# Altium footprint library LoRa_E32.PcbLib: 1 footprints
Each footprint in its own frame and in the unit in brackets; x right, y up, seen from the top. Pads: shape width x height; smd on the part's side, far side on the other; paste and mask are expansions set on the pad; w line width, h text height; cw(c..) or ccw(c..) is an arc to the next point about the centre after c.
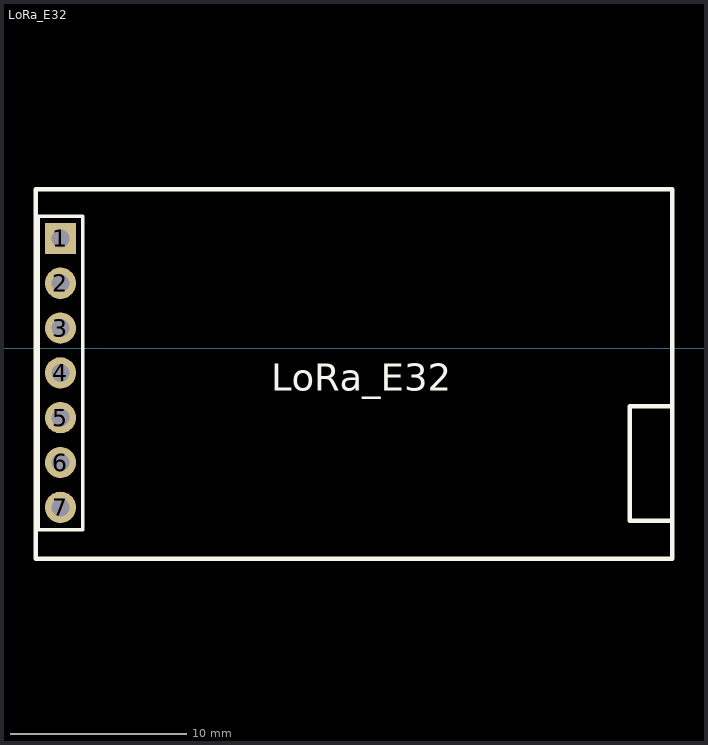
[diagram p0: the footprint, top view; thin cyan lines are the x and y axes]

## LoRa_E32 [mil]
pads (7):
  rect 70x70 hole 40: 1(135,245)
  round 70 hole 40: 2(135,145) 3(135,45) 4(135,-55) 5(135,-155) 6(135,-255) 7(135,-355)
Top Overlay:
  lines w7.87: 85,-405 185,-405 185,295 85,295 85,-405
  lines w10: 80,-470 1500,-470 1500,355 80,355 80,-470 ; 1405,-385 1500,-385 1500,-130 1405,-130 1405,-385
  text "LoRa_E32" at 605,-95 h60
3D body "E32-433T20DT.stp": height 311.19, standoff -225.03, extent 75.28,-470 1984.72,356.77